# EAGLE library part M06 (library drom)
Header 6 Standard 6-pin 0.1" header.
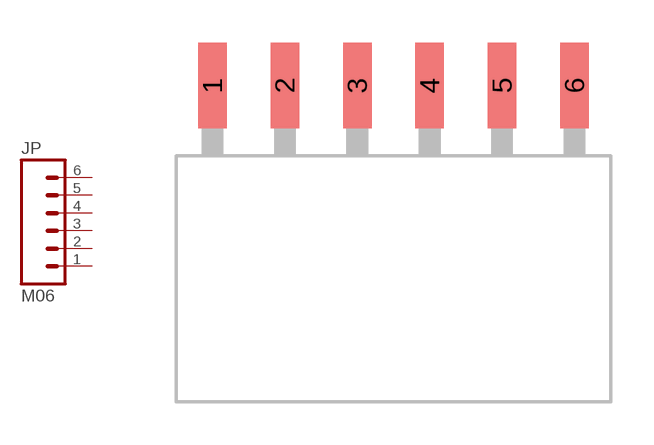
[diagram p12: symbol with the pads of 1X06-SMD_EDGE; footprint 1X06-SMD_EDGE]

Designator prefix JP

## M061X06-SMD_EDGE_FEMALE  [1X06-SMD_EDGE]
1  1  pas
2  2  pas
3  3  pas
4  4  pas
5  5  pas
6  6  pas

## Footprint 1X06-SMD_EDGE (pad centres in mm)
smd 1 x 3: 1 0,-0.08; 2 2.54,-0.08; 3 5.08,-0.08; 4 7.62,-0.08; 5 10.16,-0.08; 6 12.7,-0.08